# Altium footprint library TO-263-5.PcbLib: 1 footprints
Each footprint in its own frame and in the unit in brackets; x right, y up, seen from the top. Pads: shape width x height; smd on the part's side, far side on the other; paste and mask are expansions set on the pad; w line width, h text height; cw(c..) or ccw(c..) is an arc to the next point about the centre after c.
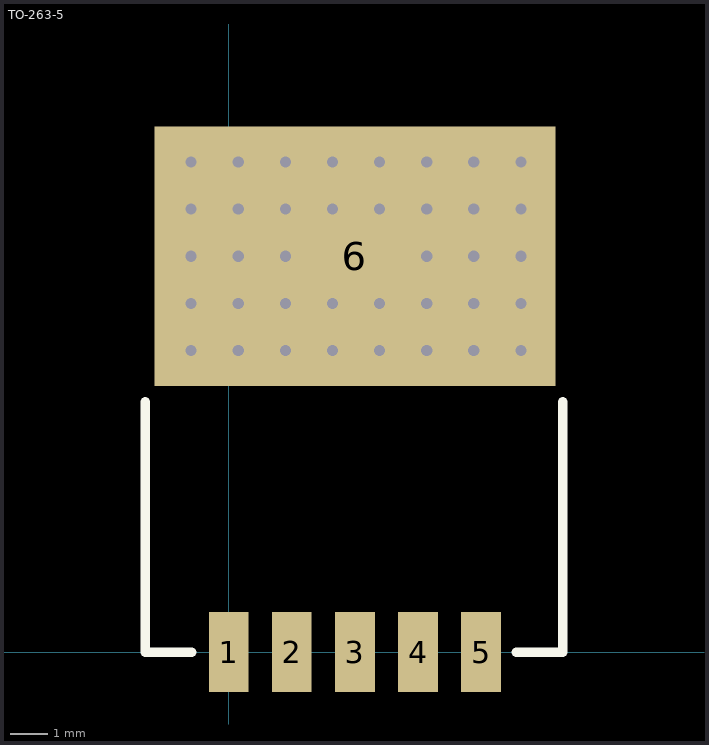
[diagram p0: the footprint, top view; thin cyan lines are the x and y axes]

## TO-263-5 [mm]
height 5
pads (6):
  rect 1.07x2.16 smd: 1(0,0) 2(1.7,0) 3(3.4,0) 4(5.1,0) 5(6.8,0)
  rect 10.8x6.99 smd: 6(3.4,10.67)
via 7.874,13.208 diameter 0.6 hole 0.3
via 6.604,13.208 diameter 0.6 hole 0.3
via 5.334,13.208 diameter 0.6 hole 0.3
via 4.064,13.208 diameter 0.6 hole 0.3
via 2.794,13.208 diameter 0.6 hole 0.3
via 4.064,11.938 diameter 0.6 hole 0.3
via 2.794,11.938 diameter 0.6 hole 0.3
via 1.524,13.208 diameter 0.6 hole 0.3
via 0.254,13.208 diameter 0.6 hole 0.3
via -1.016,13.208 diameter 0.6 hole 0.3
via -1.016,11.938 diameter 0.6 hole 0.3
via 0.254,11.938 diameter 0.6 hole 0.3
via 1.524,11.938 diameter 0.6 hole 0.3
via 5.334,11.938 diameter 0.6 hole 0.3
via 6.604,11.938 diameter 0.6 hole 0.3
via 7.874,11.938 diameter 0.6 hole 0.3
via -1.016,10.67 diameter 0.6 hole 0.3
via 0.254,10.67 diameter 0.6 hole 0.3
via 1.524,10.67 diameter 0.6 hole 0.3
via 5.334,10.67 diameter 0.6 hole 0.3
via 6.604,10.67 diameter 0.6 hole 0.3
via 7.874,10.67 diameter 0.6 hole 0.3
via 7.874,9.398 diameter 0.6 hole 0.3
via 7.874,8.128 diameter 0.6 hole 0.3
via 6.604,9.398 diameter 0.6 hole 0.3
via 6.604,8.128 diameter 0.6 hole 0.3
via 5.334,9.398 diameter 0.6 hole 0.3
via 5.334,8.128 diameter 0.6 hole 0.3
via 4.064,9.398 diameter 0.6 hole 0.3
via 4.064,8.128 diameter 0.6 hole 0.3
via 2.794,9.398 diameter 0.6 hole 0.3
via 2.794,8.128 diameter 0.6 hole 0.3
via 1.524,9.398 diameter 0.6 hole 0.3
via 1.524,8.128 diameter 0.6 hole 0.3
via 0.254,9.398 diameter 0.6 hole 0.3
via 0.254,8.128 diameter 0.6 hole 0.3
via -1.016,9.398 diameter 0.6 hole 0.3
via -1.016,8.128 diameter 0.6 hole 0.3
Top Overlay:
  lines w0.254: -2.25,6.75 -2.25,0 -1,0 ; 7.75,0 9,0 9,6.75
3D body "TO263-5-1.stp": height 4.22, standoff 0, extent -1.511,-0.811 8.311,13.791